# Altium integrated library TDA1519B.IntLib: 1 symbol
Pins are listed as number, name and electrical type; pins without a type are passive.

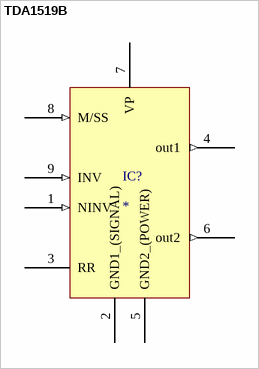
[diagram p0: symbol TDA1519B]

## TDA1519B
designator IC?
The TDA1010A is a monolithic integrated class-B audio amplifier circuit in a 9-lead single in-line (SIL) plastic package. The device is primarily developed as a 6 W car radio amplifier for use with 4 Wand 2 Wload impedances. The wide supply voltage range and the flexibility of the IC make it an attractive proposition for record players and tape recorders with output powers up to 10 W.; MF: NXP Semiconductors; MP: TDA1519B; Value: *; Check_prices: https://www.snapeda.com/parts/TDA1010A/NXP+Semiconductors/view-part/?ref=eda; Price: None; SnapEDA_Link: https://www.snapeda.com/parts/TDA1010A/NXP+Semiconductors/view-part/?ref=snap; Availability: Not in stock; Package: None
footprint SOT110-1
pins: 1 NINV (in), 2 GND1_(SIGNAL) (power), 3 RR, 4 out1 (out), 5 GND2_(POWER) (power), 6 out2 (out), 7 VP (power), 8 M/SS (in), 9 INV (in)